# EAGLE library part DG467 (library dubec)
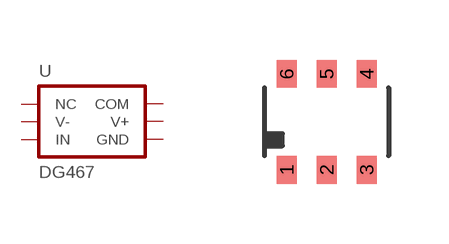
[diagram p34: symbol with the pads of 6-TSOP; footprint 6-TSOP]

Designator prefix -

## DG467V-T1-E3 (DIGIKEY_PART_#: DG467DV-T1-E3CT-ND; EPK: 351.09; MANUFACTURER: Vishay Siliconix; MFG_PART_#: DG467DV-T1-E3; TEMP: -40°C ~ 85°C (TA))  [6-TSOP]
1  NC  pas
2  V-  pas
3  IN  pas
4  GND  pas
5  V+  pas
6  COM  pas

## Footprint 6-TSOP (pad centres in mm)
smd 0.5 x 0.7: 1 -1,-1.2; 2 0,-1.2; 3 1,-1.2; 4 1,1.2; 5 0,1.2; 6 -1,1.2